# Altium footprint library Capacitors.PcbLib: 13 footprints
Each footprint in its own frame and in the unit in brackets; x right, y up, seen from the top. Pads: shape width x height; smd on the part's side, far side on the other; paste and mask are expansions set on the pad; w line width, h text height; cw(c..) or ccw(c..) is an arc to the next point about the centre after c.
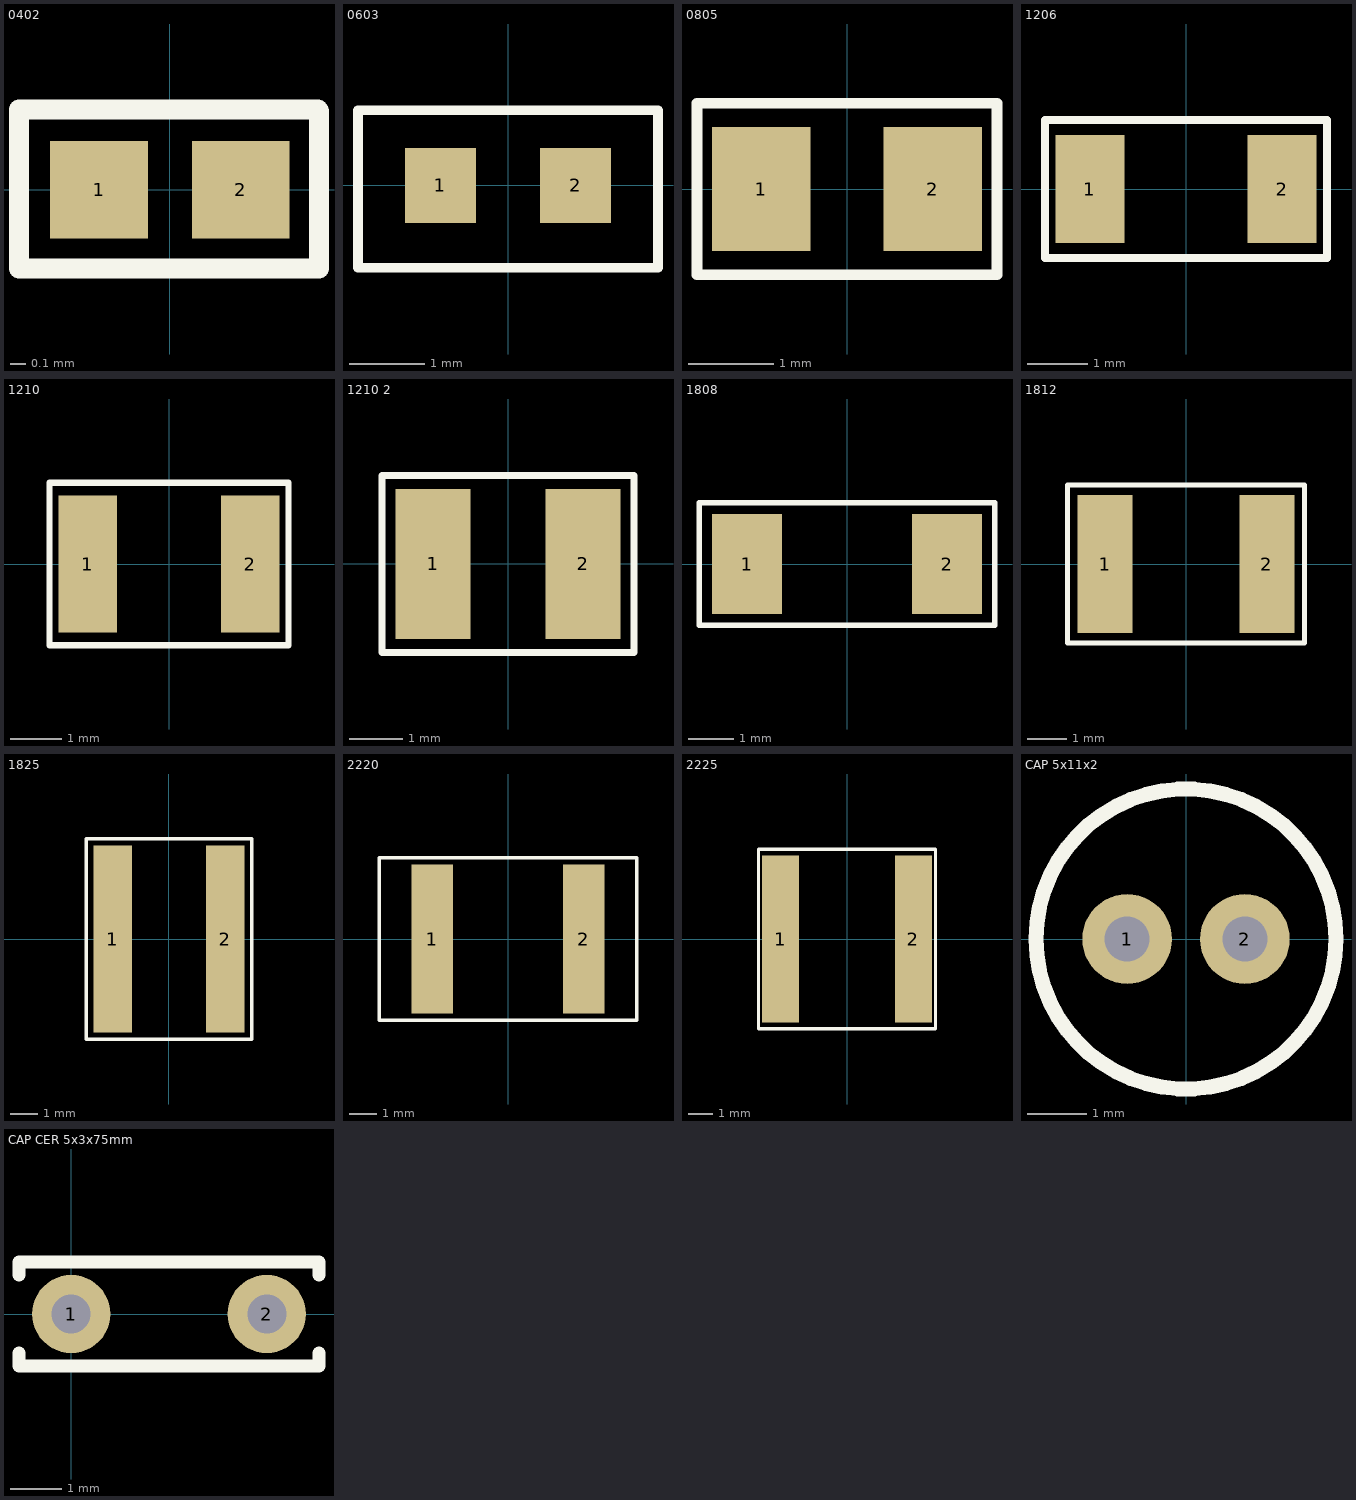
[diagram p0: the footprints below, top view; thin cyan lines are the x and y axes]

## 0402 [mm]
pads (2):
  rect 0.62x0.62 smd: 1(-0.45,0) 2(0.45,0)
Top Overlay:
  lines w0.127: -0.958,0.5 -0.958,0 -0.958,-0.5 0.947,-0.5 0.947,0 0.947,0.5 ; -0.958,0.508 0.942,0.508

## 0603 [mm]
pads (2):
  rect 0.95x1 smd: 1(-0.9,0) 2(0.9,0)
Top Overlay:
  lines w0.127: 1.75,1 0,1 ; 0,1 -2,1 -2,-1.1 2,-1.1 2,1 0,1

## 0805 [mm]
pads (2):
  rect 1.15x1.45 smd: 1(-1,0) 2(1,0)
Top Overlay:
  lines w0.127: 1.75,-1 -1.75,-1 -1.75,1 1.75,1 1.75,-0.995
3D body: height 0.64, standoff -0.01, extent -1.143,-0.66 1.143,0.66

## 1206 [mm]
pads (2):
  rect 1.15x1.8 smd: 1(-1.6,0) 2(1.6,0)
Top Overlay:
  lines w0.127: -2.35,1.15 0,1.15 ; -2.35,1.15 -2.35,0 -2.35,-1.15 2.35,-1.15 2.35,1.15 ; -2.35,1.15 0,1.15 ; 0,1.15 2.35,1.15 ; 0,1.15 2.35,1.15

## 1210 [mm]
pads (2):
  rect 1.15x2.7 smd: 1(-1.6,0) 2(1.6,0)
Top Overlay:
  lines w0.127: -2.35,-1.6 -2.35,1.6 0,1.6 2.35,1.6 2.35,-1.6 0,-1.6 -2.35,-1.6

## 1210 2 [mm]
pads (2):
  rect 1.4x2.8 smd: 1(-1.4,0) 2(1.4,0)
Top Overlay:
  lines w0.127: -2.35,-1.65 2.35,-1.65 2.35,1.65 1.175,1.65 -1.175,1.65 -2.35,1.65 -2.35,-1.65

## 1808 [mm]
pads (2):
  rect 1.55x2.2 smd: 1(-2.2,0) 2(2.2,0)
Top Overlay:
  lines w0.127: -3.25,-1.35 -1.625,-1.35 1.625,-1.35 3.25,-1.35 3.25,1.35 1.625,1.35 -1.625,1.35 -3.25,1.35 -3.25,-1.35

## 1812 [mm]
pads (2):
  rect 1.4x3.5 smd: 1(-2.05,0) 2(2.05,0)
Top Overlay:
  lines w0.127: -3,-2 -3,2 -1.5,2 1.5,2 3,2 3,-2 1.5,-2 -1.5,-2 -3,-2

## 1825 [mm]
pads (2):
  rect 1.4x6.8 smd: 1(-2.05,0) 2(2.05,0)
Top Overlay:
  lines w0.127: -3,-3.65 -3,3.65 -1.5,3.65 1.5,3.65 3,3.65 3,-3.65 1.5,-3.65 -1.5,-3.65 -3,-3.65

## 2220 [mm]
pads (2):
  rect 1.5x5.4 smd: 1(-2.75,0) 2(2.75,0)
Top Overlay:
  lines w0.127: -4.67,-2.95 -4.67,2.95 0,2.95 4.67,2.95 4.67,-2.95 0,-2.95 -4.67,-2.95

## 2225 [mm]
pads (2):
  rect 1.5x6.8 smd: 1(-2.7,0) 2(2.7,0)
Top Overlay:
  lines w0.127: -3.6,-3.65 -1.8,-3.65 1.8,-3.65 3.6,-3.65 3.6,3.65 1.8,3.65 -1.8,3.65 -3.6,3.65 -3.6,-3.65

## CAP 5x11x2 [mil] "5 mm (d) x 11mm(L) x 2 mm Lead Spacing."
pads (2):
  round 60 hole 30: 1(-39.37,0) 2(39.37,0)
Top Overlay:
  circle w10: c0,0 r100.37
3D body "User Library-cap 5x11.STEP": height 452.76, standoff -728.35, extent -98.42,-98.42 98.42,98.43

## CAP CER 5x3x75mm [mil] "CAP CER 1000PF 500V 10% RADIAL"
height 2952.76
pads (2):
  round 60 hole 30: 1(0,0) 2(150,0)
Top Overlay:
  lines w10: -40,-30 -40,-40 190,-40 190,-30 ; -40,30 -40,40 190,40 190,30
3D body "User Library-Ceramic Capacitor 5x3_75mm.step": height 293.64, standoff -59.06, extent -21.79,-39.36 171.8,39.38